# Altium schematic symbol library SCH - DIGITAL ISOLATOR - ANALOG DEVICES ADUM4165.SchLib: 1 symbol
Pins are listed as number, name and electrical type; pins without a type are passive.

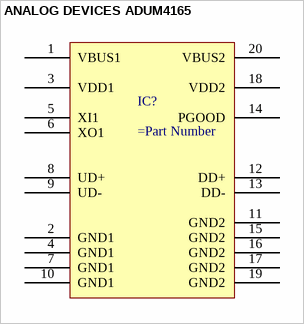
[diagram p0: symbol ANALOG DEVICES ADUM4165]

## ANALOG DEVICES ADUM4165
designator IC?
pins: 1 VBUS1, 2 GND1, 3 VDD1, 4 GND1, 5 XI1, 6 XO1, 7 GND1, 8 UD+, 9 UD-, 10 GND1, 11 GND2, 12 DD+, 13 DD-, 14 PGOOD, 15 GND2, 16 GND2, 17 GND2, 18 VDD2, 19 GND2, 20 VBUS2